# EAGLE library part RELV23100V4324C (library rele)
RELAY
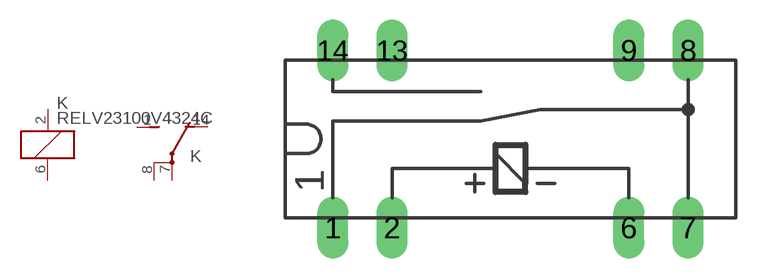
[diagram p7: symbol with the pads of RELV23100; footprint RELV23100]

Designator prefix K; gates G$1=K G$2=U1

## RELV23100V4324C  [RELV23100]
1  G$2:S  pas
2  G$1:1  pas
6  G$1:2  pas
7  G$2:P  pas
8  G$2:P  pas
14  G$2:O  pas

## Footprint RELV23100 (pad centres in mm)
RELAY
drill 0.813 long: 1 -7.62,-3.81; 2 -5.08,-3.81; 6 5.08,-3.81; 7 7.62,-3.81; 8 7.62,3.81; 9 5.08,3.81; 13 -5.08,3.81; 14 -7.62,3.81